# Altium footprint library 贴片电感.PcbLib: 1 footprints
Each footprint in its own frame and in the unit in brackets; x right, y up, seen from the top. Pads: shape width x height; smd on the part's side, far side on the other; paste and mask are expansions set on the pad; w line width, h text height; cw(c..) or ccw(c..) is an arc to the next point about the centre after c.
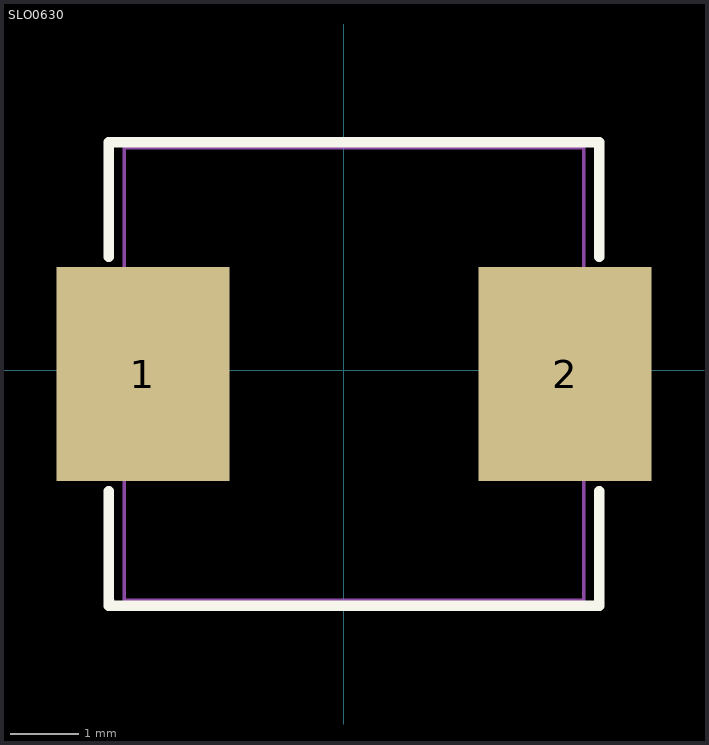
[diagram p0: the footprint, top view; thin cyan lines are the x and y axes]

## SLO0630 [mm]
pads (2):
  rect 2.524x3.12 smd: 1(-2.929,-0.053) 2(3.227,-0.053)
Top Overlay:
  lines w0.152: -3.427,-1.765 -3.427,-3.429 3.725,-3.429 3.725,-1.765 ; -3.427,1.66 -3.427,3.323 3.725,3.323 3.725,1.66
Mechanical 15:
  region: -1.799,-1.503 -3.399,-1.503 -3.399,1.397 -1.799,1.397
  region: 2.1,1.397 3.7,1.397 3.7,-1.503 2.1,-1.503
  region: -3.343,-3.36 -3.343,-3.385 -3.378,-3.42 -3.428,-3.42 -3.463,-3.385 -3.463,-3.36 -3.463,-3.335 -3.428,-3.3 -3.378,-3.3 -3.343,-3.335 -3.343,-3.36
  lines w0.051: -3.201,-3.353 3.499,-3.353 3.499,3.247 -3.201,3.247 -3.201,-3.353